# Altium schematic symbol library Memory.SchLib: 3 symbols
Pins are listed as number, name and electrical type; pins without a type are passive.

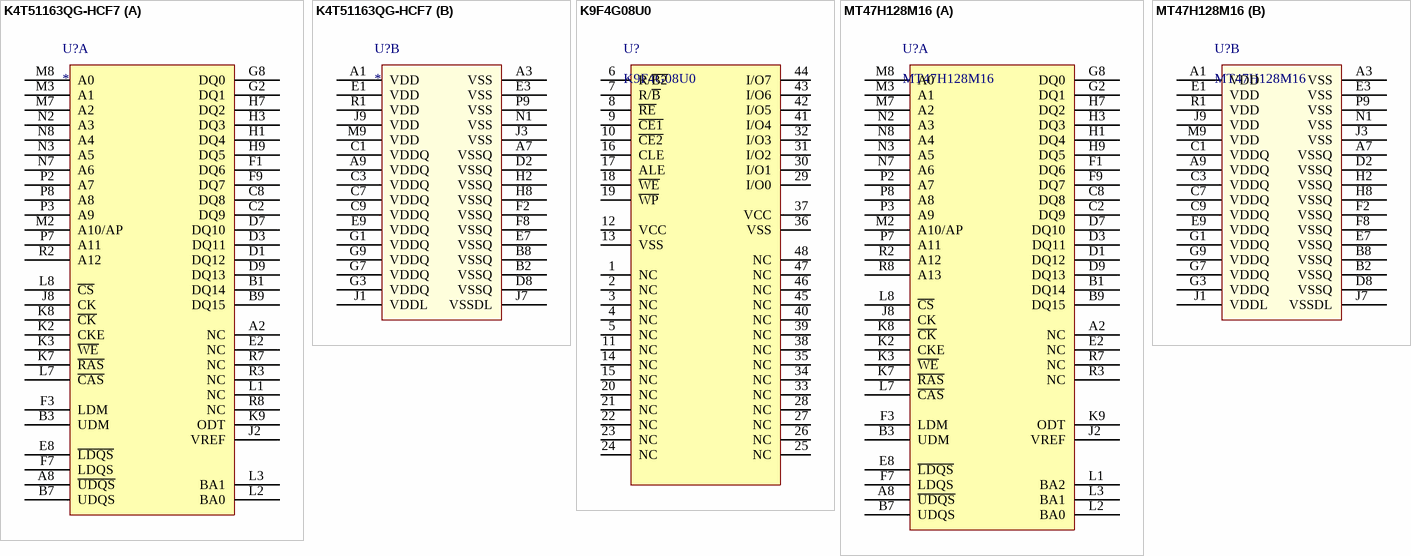
[diagram p0: symbols K4T51163QG-HCF7 to MT47H128M16]

## K4T51163QG-HCF7
designator U?
footprint DDRII_FBGA
part A pins: A2 NC, A8 ~{UDQS}, B1 DQ14, B3 UDM, B7 UDQS, B9 DQ15, C2 DQ9, C8 DQ8, D1 DQ12, D3 DQ11, D7 DQ10, D9 DQ13, E2 NC, E8 ~{LDQS}, F1 DQ6, F3 LDM, F7 LDQS, F9 DQ7, G2 DQ1, G8 DQ0, H1 DQ4, H3 DQ3, H7 DQ2, H9 DQ5, J2 VREF, J8 CK, K2 CKE, K3 ~{WE}, K7 ~{RAS}, K8 ~{CK}, K9 ODT, L1 NC, L2 BA0, L3 BA1, L7 ~{CAS}, L8 ~{CS}, M2 A10/AP, M3 A1, M7 A2, M8 A0, N2 A3, N3 A5, N7 A6, N8 A4, P2 A7, P3 A9, P7 A11, P8 A8, R2 A12, R3 NC, R7 NC, R8 NC
part B pins: A1 VDD, A3 VSS, A7 VSSQ, A9 VDDQ, B2 VSSQ, B8 VSSQ, C1 VDDQ, C3 VDDQ, C7 VDDQ, C9 VDDQ, D2 VSSQ, D8 VSSQ, E1 VDD, E3 VSS, E7 VSSQ, E9 VDDQ, F2 VSSQ, F8 VSSQ, G1 VDDQ, G3 VDDQ, G7 VDDQ, G9 VDDQ, H2 VSSQ, H8 VSSQ, J1 VDDL, J3 VSS, J7 VSSDL, J9 VDD, M9 VDD, N1 VSS, P9 VSS, R1 VDD

## K9F4G08U0
designator U?
SAMSUNG NAND FLASH
footprint TSOP1-48 (TSSOP, 48-Leads, Body 12.4x18.4mm (max), Pitch 0.50mm, IPC Medium Density)
pins: 1 NC, 2 NC, 3 NC, 4 NC, 5 NC, 6 R/~{B2}, 7 R/~{B}, 8 ~{RE}, 9 ~{CE1}, 10 ~{CE2}, 11 NC, 12 VCC, 13 VSS, 14 NC, 15 NC, 16 CLE, 17 ALE, 18 ~{WE}, 19 ~{WP}, 20 NC, 21 NC, 22 NC, 23 NC, 24 NC, 25 NC, 26 NC, 27 NC, 28 NC, 29 I/O0, 30 I/O1, 31 I/O2, 32 I/O3, 33 NC, 34 NC, 35 NC, 36 VSS, 37 VCC, 38 NC, 39 NC, 40 NC, 41 I/O4, 42 I/O5, 43 I/O6, 44 I/O7, 45 NC, 46 NC, 47 NC, 48 NC

## MT47H128M16
designator U?
Micron 2Gb DDR II Memory 16Meg x 16 bits x 8 Banks
footprint DDRII_FBGA
part A pins: A2 NC, A8 ~{UDQS}, B1 DQ14, B3 UDM, B7 UDQS, B9 DQ15, C2 DQ9, C8 DQ8, D1 DQ12, D3 DQ11, D7 DQ10, D9 DQ13, E2 NC, E8 ~{LDQS}, F1 DQ6, F3 LDM, F7 LDQS, F9 DQ7, G2 DQ1, G8 DQ0, H1 DQ4, H3 DQ3, H7 DQ2, H9 DQ5, J2 VREF, J8 CK, K2 CKE, K3 ~{WE}, K7 ~{RAS}, K8 ~{CK}, K9 ODT, L1 BA2, L2 BA0, L3 BA1, L7 ~{CAS}, L8 ~{CS}, M2 A10/AP, M3 A1, M7 A2, M8 A0, N2 A3, N3 A5, N7 A6, N8 A4, P2 A7, P3 A9, P7 A11, P8 A8, R2 A12, R3 NC, R7 NC, R8 A13
part B pins: A1 VDD, A3 VSS, A7 VSSQ, A9 VDDQ, B2 VSSQ, B8 VSSQ, C1 VDDQ, C3 VDDQ, C7 VDDQ, C9 VDDQ, D2 VSSQ, D8 VSSQ, E1 VDD, E3 VSS, E7 VSSQ, E9 VDDQ, F2 VSSQ, F8 VSSQ, G1 VDDQ, G3 VDDQ, G7 VDDQ, G9 VDDQ, H2 VSSQ, H8 VSSQ, J1 VDDL, J3 VSS, J7 VSSDL, J9 VDD, M9 VDD, N1 VSS, P9 VSS, R1 VDD